# Altium schematic symbol library Buffer.SchLib: 2 symbols
Pins are listed as number, name and electrical type; pins without a type are passive.

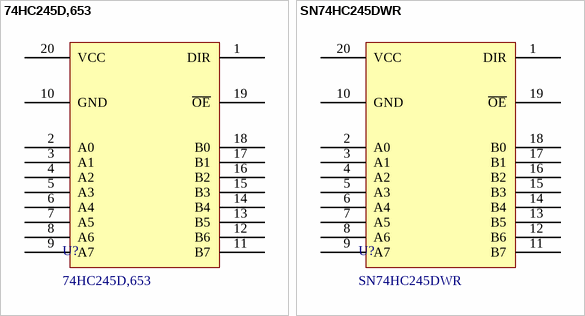
[diagram p0: symbols 74HC245D,653 to SN74HC245DWR]

## 74HC245D,653
designator U?
Bus Transceivers 74HC245D/SOT163/SO20; Manufacturer: Nexperia; Active Read Current - Max: Active; Input Level: CMOS; Output Type: 3-State; Polarity: Non-Inverting; Supply Voltage - Max: 6 V; Supply Voltage - Min: 2 V; Output Level: CMOS; Supplier 1 URL: https://www.mouser.com/ProductDetail/Nexperia/74HC245D653?qs=P62ublwmbi8JbvNhK4vCnA%3D%3D; Supplier 2 URL: N/A; Supplier 3 URL: https://www.thegioiic.com/74hc245d-653-ic-bus-transceiver-non-inverting-8-bit-3-state-20-soic; Value: 74HC245D,653; Supplier 1: Mouser; Supplier 1 Part Number: 771-74HC245D-T; Supplier 2: Digi-Key; Supplier 2 Part Number: N/A; Supplier 3: thegioiic; Supplier 3 Part Number: 74HC245D,653; Manufacturer Part Number: 74HC245D,653; Mount: SMD/SMT; Operating Temperature Max: + 85 C; Operating Temperature Min: - 40 C; Package / Case: SOIC-20; Packaging: Tape and Reel; ComponentLink1Description: Datasheet; ComponentLink1URL: https://www.mouser.com/datasheet/2/916/74HC_HCT245-2937284.pdf; LCSC Part #: C5625
footprint 74HC245D,653 (SOIC, 20-Leads, Body 12.80x7.50mm, Pitch 1.27mm, IPC Medium Density)
pins: 1 DIR, 2 A0, 3 A1, 4 A2, 5 A3, 6 A4, 7 A5, 8 A6, 9 A7, 10 GND, 11 B7, 12 B6, 13 B5, 14 B4, 15 B3, 16 B2, 17 B1, 18 B0, 19 ~{OE}, 20 VCC

## SN74HC245DWR
designator U?
Bus Transceivers Tri-State Octal Bus; Manufacturer: Texas Instruments; Active Read Current - Max: Active; Input Level: CMOS; Output Type: 3-State; Polarity: Non-Inverting; Supply Voltage - Max: 6 V; Supply Voltage - Min: 2 V; Output Level: CMOS; Supplier 1 URL: https://www.mouser.vn/ProductDetail/Texas-Instruments/SN74HC245DWR?qs=dQtLEVC3WoZJYK%2FIz4p0jw%3D%3D; Supplier 2 URL: N/A; Supplier 3 URL: N/A; Value: SN74HC245DWR; Supplier 1: Mouser; Supplier 1 Part Number: 595-SN74HC245DWR; Supplier 2: Digi-Key; Supplier 2 Part Number: N/A; Supplier 3: thegioiic; Supplier 3 Part Number: N/A; Manufacturer Part Number: SN74HC245DWR; Mount: SMD/SMT; Operating Temperature Max: + 85 C; Operating Temperature Min: - 40 C; Package / Case: SOIC-20; Packaging: Tape and Reel; ComponentLink1Description: Datasheet; ComponentLink1URL: https://www.ti.com/general/docs/suppproductinfo.tsp?distId=26&gotoUrl=https://www.ti.com/lit/gpn/sn74hc245; LCSC Part #: C10093
footprint 74HC245D,653 (SOIC, 20-Leads, Body 12.80x7.50mm, Pitch 1.27mm, IPC Medium Density)
pins: 1 DIR, 2 A0, 3 A1, 4 A2, 5 A3, 6 A4, 7 A5, 8 A6, 9 A7, 10 GND, 11 B7, 12 B6, 13 B5, 14 B4, 15 B3, 16 B2, 17 B1, 18 B0, 19 ~{OE}, 20 VCC